# Altium schematic symbol library HD3SS3212-Q1.SchLib: 1 symbol
Pins are listed as number, name and electrical type; pins without a type are passive.

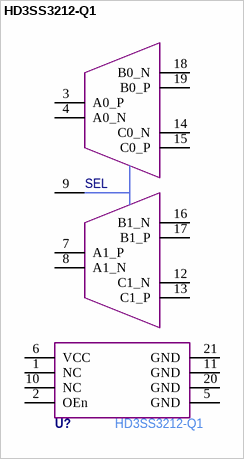
[diagram p0: symbol HD3SS3212-Q1]

## HD3SS3212-Q1
designator U?  Manufacturer Part Number: HD3SS3212-Q1  (hidden comment: *)
pins: 1 NC, 2 OEn, 3 A0_P, 4 A0_N, 5 GND, 6 VCC, 7 A1_P, 8 A1_N, 9 SEL, 10 NC, 11 GND, 12 C1_N, 13 C1_P, 14 C0_N, 15 C0_P, 16 B1_N, 17 B1_P, 18 B0_N, 19 B0_P, 20 GND, 21 GND